# Altium footprint library SOP127P700X230-5N.PcbLib: 1 footprints
Each footprint in its own frame and in the unit in brackets; x right, y up, seen from the top. Pads: shape width x height; smd on the part's side, far side on the other; paste and mask are expansions set on the pad; w line width, h text height; cw(c..) or ccw(c..) is an arc to the next point about the centre after c.
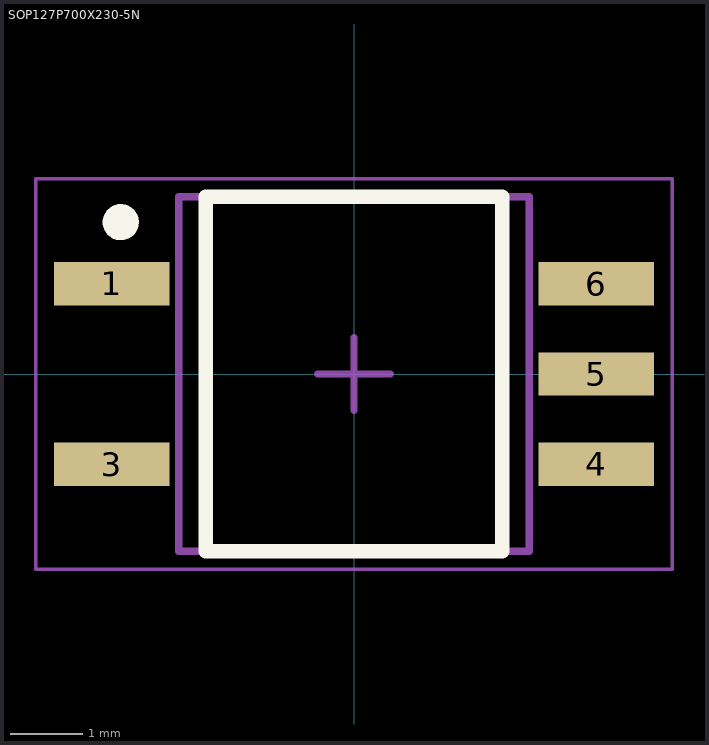
[diagram p0: the footprint, top view; thin cyan lines are the x and y axes]

## SOP127P700X230-5N [mm] "VOM453, SOP-5, 5-Leads, Body 4,53x7,00mm, Pitch 1,27mm, IPC Medium Density"
height 2.3
pads (5):
  rect 1.6x0.6 smd: 1(-3.35,1.25) 3(-3.35,-1.25) 4(3.35,-1.25) 5(3.35,0) 6(3.35,1.25)
Top Overlay:
  circle w0.25: c-3.225,2.1 r0.125
  lines w0.2: -2.05,-2.45 -2.05,2.45 2.05,2.45 2.05,-2.45 -2.05,-2.45
Top Assembly:
  lines w0.1: -2.425,-2.45 2.425,-2.45 2.425,2.45 -2.425,2.45 -2.425,-2.45
Top Courtyard:
  lines w0.05: -4.4,-2.7 4.4,-2.7 4.4,2.7 -4.4,2.7 -4.4,-2.7
  lines w0.1: -0.5,0 0.5,0 ; 0,-0.5 0,0.5
3D body "SOP127P700X230-5N.step": height 2.3, standoff 0, extent -3.65,-2.45 3.65,2.45